# Altium schematic symbol library Diodes.SchLib: 8 symbols
Pins are listed as number, name and electrical type; pins without a type are passive.

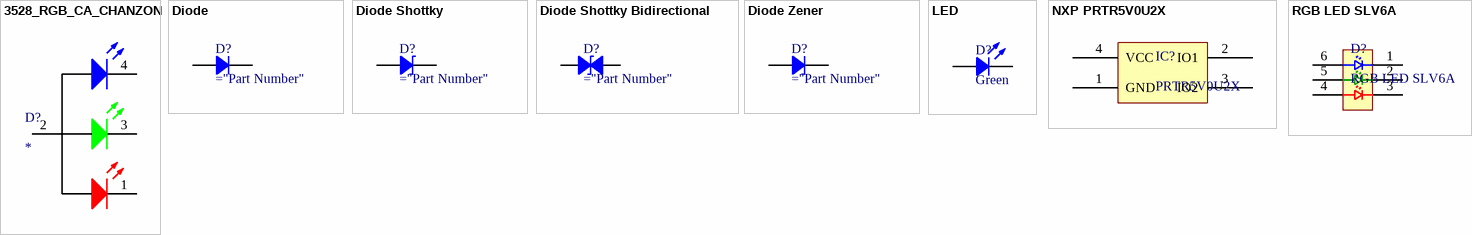
[diagram p0: symbols 3528_RGB_CA_CHANZON to RGB LED SLV6A]

## 3528_RGB_CA_CHANZON
designator D?
pins: 1 KR, 2 A, 3 KG, 4 KB

## Diode
designator D?
Rectifier Diode
pins: 1, 2

## Diode Shottky
designator D?
Shottky Diode
pins: 1, 2

## Diode Shottky Bidirectional
designator D?
Bidirectional Shottky Diode
pins: 1, 2

## Diode Zener
designator D?
Zener Diode
pins: 1, 2

## LED
designator D?, comment Green
Chip LED; Value: Green
pins: 1, 2

## NXP PRTR5V0U2X
designator IC?, comment PRTR5V0U2X
Ultra low capacitance double rail-to-rail ESD protection diode
pins: 1 GND, 2 IO1, 3 IO2, 4 VCC

## RGB LED SLV6A
designator D?
Cree SLV6A
pins: 1 C1, 2 C2, 3 C3, 4 A3, 5 A2, 6 A1